# EAGLE library part STM32F205R (library stm32)
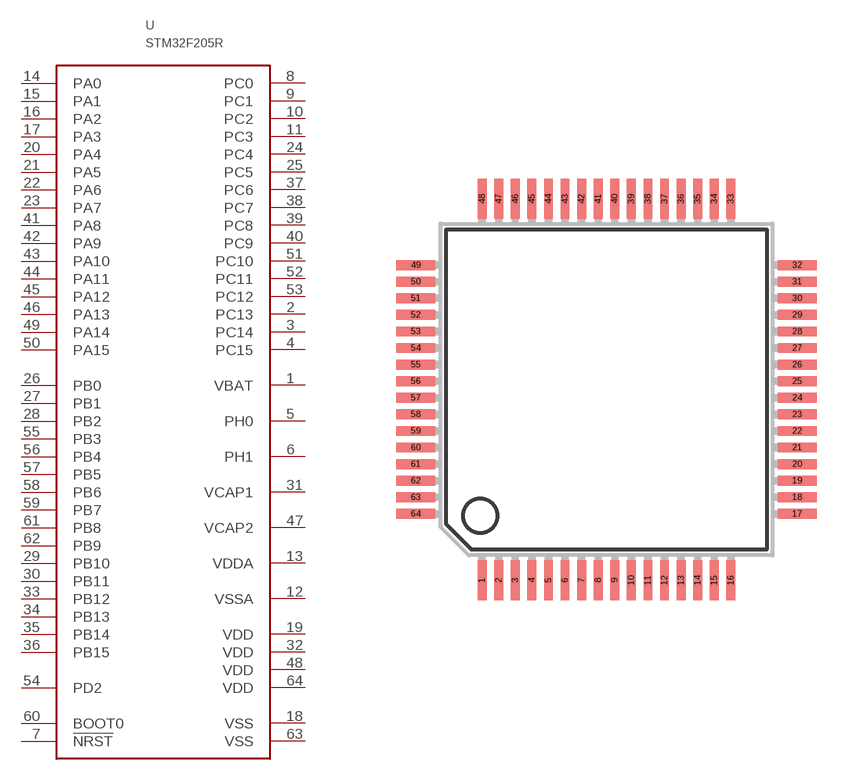
[diagram p31: symbol with the pads of LQFP64_0.5_10X10_STM_MIL; footprint LQFP64_0.5_10X10_STM_MIL]

Designator prefix U

## STM32F205R-MIL  [LQFP64_0.5_10X10_STM_MIL]
1  VBAT  pas
2  PC13  hiz
3  PC14  hiz
4  PC15  hiz
5  PH0  pas
6  PH1  pas
7  !NRST  hiz
8  PC0  hiz
9  PC1  hiz
10  PC2  hiz
11  PC3  hiz
12  VSSA  pas
13  VDDA  pas
14  PA0  hiz
15  PA1  hiz
16  PA2  hiz
17  PA3  hiz
18  VSS  pas
19  VDD  pas
20  PA4  hiz
21  PA5  hiz
22  PA6  hiz
23  PA7  hiz
24  PC4  hiz
25  PC5  hiz
26  PB0  hiz
27  PB1  hiz
28  PB2  hiz
29  PB10  hiz
30  PB11  hiz
31  VCAP1  pas
32  VDD  pas
33  PB12  hiz
34  PB13  hiz
35  PB14  hiz
36  PB15  hiz
37  PC6  hiz
38  PC7  hiz
39  PC8  hiz
40  PC9  hiz
41  PA8  hiz
42  PA9  hiz
43  PA10  hiz
44  PA11  hiz
45  PA12  hiz
46  PA13  hiz
47  VCAP2  pas
48  VDD  pas
49  PA14  hiz
50  PA15  hiz
51  PC10  hiz
52  PC11  hiz
53  PC12  hiz
54  PD2  hiz
55  PB3  hiz
56  PB4  hiz
57  PB5  hiz
58  PB6  hiz
59  PB7  hiz
60  BOOT0  in
61  PB8  hiz
62  PB9  hiz
63  VSS  pas
64  VDD  pas

## Footprint LQFP64_0.5_10X10_STM_MIL (pad centres in mm)
smd 0.279 x 1.194: 1 -3.75,-5.75; 2 -3.25,-5.75; 3 -2.75,-5.75; 4 -2.25,-5.75; 5 -1.75,-5.75; 6 -1.25,-5.75; 7 -0.75,-5.75; 8 -0.25,-5.75; 9 0.25,-5.75; 10 0.75,-5.75; 11 1.25,-5.75; 12 1.75,-5.75; 13 2.25,-5.75; 14 2.75,-5.75; 15 3.25,-5.75; 16 3.75,-5.75; 33 3.75,5.75; 34 3.25,5.75; 35 2.75,5.75; 36 2.25,5.75; 37 1.75,5.75; 38 1.25,5.75; 39 0.75,5.75; 40 0.25,5.75; 41 -0.25,5.75; 42 -0.75,5.75; 43 -1.25,5.75; 44 -1.75,5.75; 45 -2.25,5.75; 46 -2.75,5.75; 47 -3.25,5.75; 48 -3.75,5.75
smd 1.194 x 0.279: 17 5.75,-3.75; 18 5.75,-3.25; 19 5.75,-2.75; 20 5.75,-2.25; 21 5.75,-1.75; 22 5.75,-1.25; 23 5.75,-0.75; 24 5.75,-0.25; 25 5.75,0.25; 26 5.75,0.75; 27 5.75,1.25; 28 5.75,1.75; 29 5.75,2.25; 30 5.75,2.75; 31 5.75,3.25; 32 5.75,3.75; 49 -5.75,3.75; 50 -5.75,3.25; 51 -5.75,2.75; 52 -5.75,2.25; 53 -5.75,1.75; 54 -5.75,1.25; 55 -5.75,0.75; 56 -5.75,0.25; 57 -5.75,-0.25; 58 -5.75,-0.75; 59 -5.75,-1.25; 60 -5.75,-1.75; 61 -5.75,-2.25; 62 -5.75,-2.75; 63 -5.75,-3.25; 64 -5.75,-3.75